# Altium footprint library PcbLib.PcbLib: 18 footprints (part 2 of 2)
Each footprint in its own frame and in the unit in brackets; x right, y up, seen from the top. Pads: shape width x height; smd on the part's side, far side on the other; paste and mask are expansions set on the pad; w line width, h text height; cw(c..) or ccw(c..) is an arc to the next point about the centre after c.
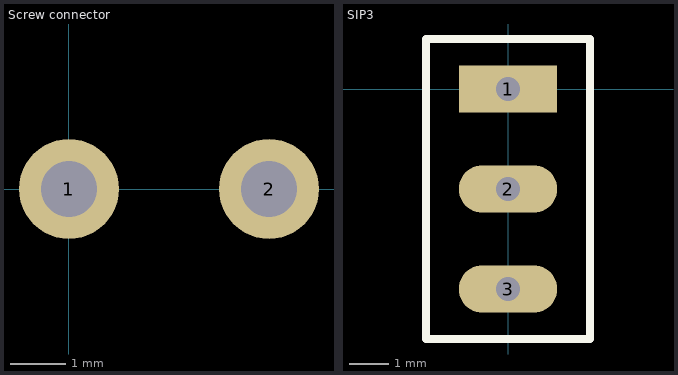
[diagram p1: the footprints below, top view; thin cyan lines are the x and y axes]

## Screw connector [mm]
pads (2):
  round 1.8 hole 1: 1(0,0) 2(3.6,0)

## SIP3 [mm]
pads (3):
  rect 2.5x1.2 hole 0.6: 1(0,0)
  oval 2.5x1.2 hole 0.6: 2(0,-2.54) 3(0,-5.08)
Top Overlay:
  lines w0.2: -2.085,-6.35 -2.085,1.27 2.085,1.27 2.085,-6.35 -2.085,-6.35